# Altium footprint library G2R-1A-E.PcbLib: 1 footprints
Each footprint in its own frame and in the unit in brackets; x right, y up, seen from the top. Pads: shape width x height; smd on the part's side, far side on the other; paste and mask are expansions set on the pad; w line width, h text height; cw(c..) or ccw(c..) is an arc to the next point about the centre after c.
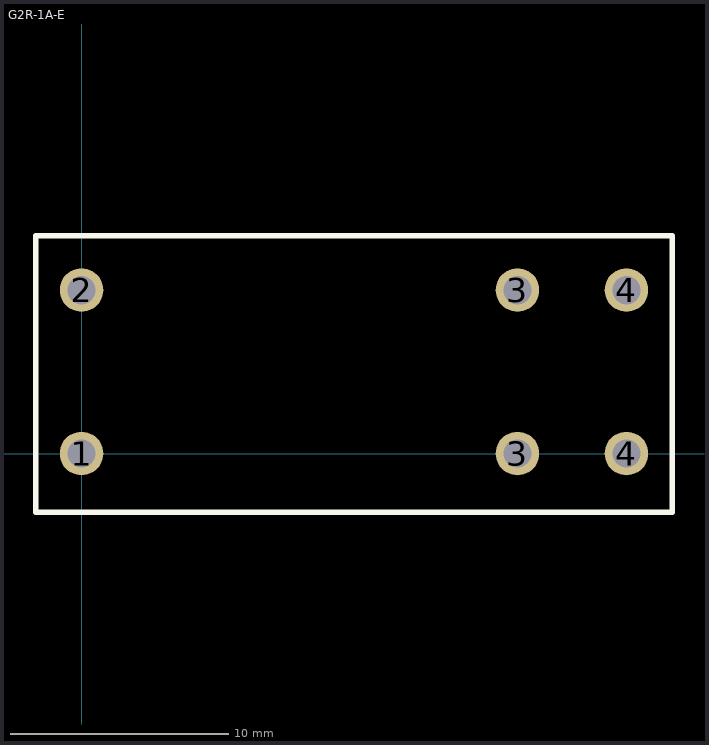
[diagram p0: the footprint, top view; thin cyan lines are the x and y axes]

## G2R-1A-E [mm]
pads (6):
  round 2 hole 1.3: 1(0,0) 2(0,7.5) 3(20,0) 3(20,7.5) 4(25,0) 4(25,7.5)
Top Overlay:
  lines w0.254: -2.1,-2.7 27.1,-2.7 27.1,10 -2.1,10 -2.1,-2.7
3D body: height 26, standoff 0, extent -2.1,-2.7 27.1,10